# Altium schematic symbol library CD4066BPW.SchLib: 1 symbol
Pins are listed as number, name and electrical type; pins without a type are passive.

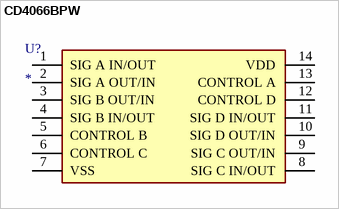
[diagram p0: symbol CD4066BPW]

## CD4066BPW
designator U?
Datasheet: https://www.ti.com/general/docs/suppproductinfo.tsp?distId=26&gotoUrl=http%3A%2F%2Fwww.ti.com%2Flit%2Fgpn%2Fcd4066b
footprint CD4066BPW
pins: 1 SIG A IN/OUT, 2 SIG A OUT/IN, 3 SIG B OUT/IN, 4 SIG B IN/OUT, 5 CONTROL B, 6 CONTROL C, 7 VSS, 8 SIG C IN/OUT, 9 SIG C OUT/IN, 10 SIG D OUT/IN, 11 SIG D IN/OUT, 12 CONTROL D, 13 CONTROL A, 14 VDD